# Altium footprint library 3568-MiniFuseHolder.PcbLib: 1 footprints
Each footprint in its own frame and in the unit in brackets; x right, y up, seen from the top. Pads: shape width x height; smd on the part's side, far side on the other; paste and mask are expansions set on the pad; w line width, h text height; cw(c..) or ccw(c..) is an arc to the next point about the centre after c.
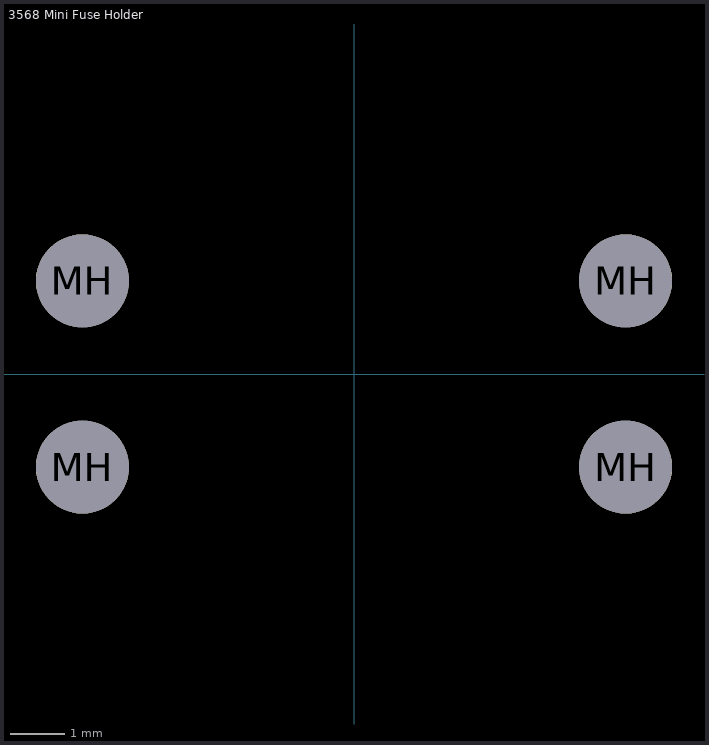
[diagram p0: the footprint, top view; thin cyan lines are the x and y axes]

## 3568 Mini Fuse Holder [mm] "3568 Mini Fuse Holder"
height 7.37
pads (4):
  round 1.7 hole 1.7: MH(-4.96,-1.7) MH(-4.96,1.7) MH(4.96,-1.7) MH(4.96,1.7)